# Altium footprint library muhendislik_tasarim.PcbLib: 7 footprints
Each footprint in its own frame and in the unit in brackets; x right, y up, seen from the top. Pads: shape width x height; smd on the part's side, far side on the other; paste and mask are expansions set on the pad; w line width, h text height; cw(c..) or ccw(c..) is an arc to the next point about the centre after c.
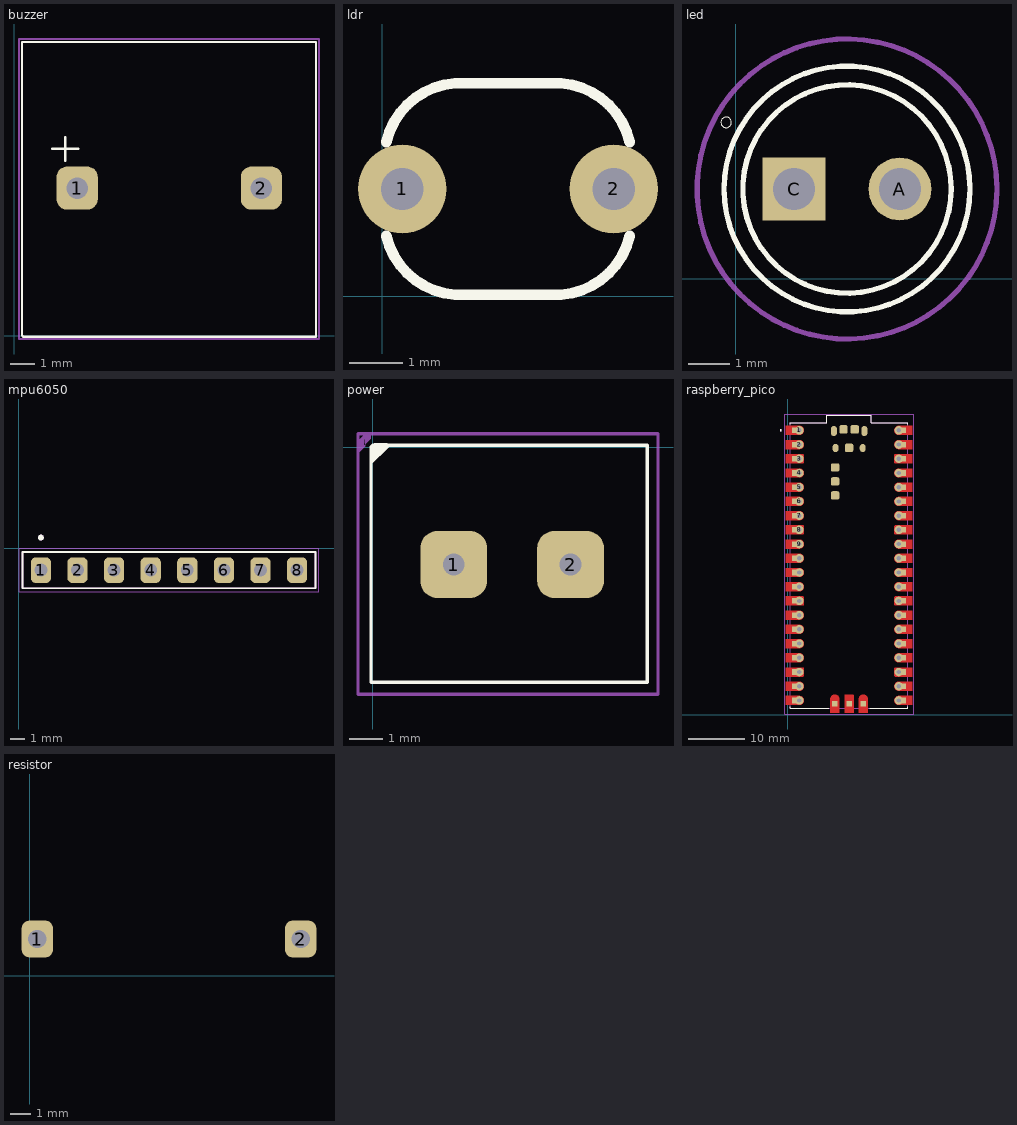
[diagram p0: the footprints below, top view; thin cyan lines are the x and y axes]

## buzzer [mil]
pads (2):
  rrect50% 66.93x70 hole 35 mask+1.97: 1(102.24,239.88) 2(401.46,239.88)
Top Overlay:
  lines w3.94: 61.89,303.85 104.21,303.85 ; 82.56,284.17 82.56,322.56 ; 12.68,0.71 14.65,-1.26 490.04,-1.26 490.04,477.08 12.68,477.08 12.68,0.71
Mechanical 3:
  lines w3.94: 7.76,-5.2 494.96,-5.2 494.96,482 7.76,482 7.76,-5.2
3D body "cem-1205c.stp": height 374.02, standoff -177.17, extent 15.63,1.69 488.07,474.13

## ldr [mil]
pads (2):
  round 66 hole 31.5: 1(15,80) 2(172.48,80)
Top Overlay:
  lines w8: 3.08,45.01 ccw(c58.26,57.75) 54.31,1.26 ; 3.08,114.98 cw(c58.26,102.24) 54.31,158.74 ; 54.37,1.26 133.11,1.26 ; 54.37,158.74 133.11,158.74 ; 133.17,1.26 ccw(c129.22,57.76) 184.4,45.02 ; 133.17,158.74 cw(c129.22,102.25) 184.4,114.99
3D body "light sensor.SLDPRT": height 82.68, standoff -98.43, extent -3.43,-3.74 193.43,153.74

## led [mil]
pads (2):
  round 59.37 hole 39.37: A(155,85)
  rect 59.37x59.37 hole 39.37: C(55,85)
Top Overlay:
  circle w0: c-9.17,147.99 r5
  circle w5: c105,85 r98.43
  circle w5: c105,85 r116.14
Mechanical 15:
  circle w5: c105,85 r141.73
3D body "everlight-5MM-LED-GREEN.STEP": height 316.4, standoff -312.25, extent 2.72,-2.28 217.28,230

## mpu6050 [mil]
pads (8):
  rrect50% 55.43x70 hole 35: 1(60,-60) 2(160,-60) 3(260,-60) 4(360,-60) 5(460,-60) 6(560,-60) 7(660,-60) 8(760,-60)
Top Overlay:
  circle w7.87: c60,28.98 r3.94
  lines w5: 10,-109.61 10,-10.39 810,-10.39 810,-109.61 10,-109.61
Mechanical 13:
  circle w7.87: c60,28.98 r3.94
  lines w5: 10,-109.61 10,-10.39 810,-10.39 810,-109.61 10,-109.61
Mechanical 15:
  lines w1.97: 0.16,-119.45 0.16,-0.55 819.84,-0.55 819.84,-119.45 0.16,-119.45
3D body "ITG-MPU.STEP": height 334.22, standoff -128.38, extent -8.23,-649.61 838.23,0

## power [mm]
pads (2):
  rrect50% 2x2 hole 0.65: 1(2.419,-3.514) 2(5.919,-3.514)
Top Overlay:
  region: 0.486,0.018 -0.087,-0.555 -0.087,-0.02 0.046,0.113 0.426,0.113
  lines w0.1: -0.056,0.011 -0.056,-7.039 8.219,-7.039 8.219,0.061 -0.006,0.061
Mechanical 3:
  region: -0.229,0.396 -0.445,0.18 -0.445,0.397 -0.443,0.396 -0.229,0.396 -0.229,0.032 -0.443,-0.182 -0.443,0.396 -0.229,0.396 -0.222,0.389 -0.063,0.389 -0.063,0.245 -0.266,0.043
  lines w0.1: -0.443,-7.386 -0.443,0.396 -0.229,0.396 8.536,0.396 8.536,-7.395 -0.434,-7.395 -0.443,-7.386
3D body "User Library-JST-XH-2_5mm-2.STEP": height 2.95, standoff -6.35, extent 0.568,-10.922 8.068,-3.282

## raspberry_pico [mil]
pads (93):
  rect 39.37x39.37 smd paste-39.37 mask+0: 1(48.5,2000) 2(48.5,1900) 3(48.5,1800) 4(48.5,1700) 5(48.5,1600) 6(48.5,1500) 7(48.5,1400) 8(48.5,1300) 9(48.5,1200) 10(48.5,1100) 11(48.5,1000) 12(48.5,900) 13(48.5,800) 14(48.5,700) 15(48.5,600) 16(48.5,500) 17(48.5,400) 18(48.5,300) 19(48.5,200) 20(48.5,100) 21(811.5,100) 22(811.5,200) 23(811.5,300) 24(811.5,400) 25(811.5,500) 26(811.5,600) 27(811.5,700) 28(811.5,800) 29(811.5,900) 30(811.5,1000) 31(811.5,1100) 32(811.5,1200) 33(811.5,1300) 34(811.5,1400) 35(811.5,1500) 36(811.5,1600) 37(811.5,1700) 38(811.5,1800) 39(811.5,1900) 40(811.5,2000) D1(330,77.56) D2(430,77.56) D3(530,77.56)
  round 60 hole 30: 1(80,2000) 2(80,1900) 3(80,1800) 4(80,1700) 5(80,1600) 6(80,1500) 7(80,1400) 8(80,1300) 9(80,1200) 10(80,1100) 11(80,1000) 12(80,900) 13(80,800) 14(80,700) 15(80,600) 16(80,500) 17(80,400) 18(80,300) 19(80,200) 20(80,100) 21(780,100) 22(780,200) 23(780,300) 24(780,400) 25(780,500) 26(780,600) 27(780,700) 28(780,800) 29(780,900) 30(780,1000) 31(780,1100) 32(780,1200) 33(780,1300) 34(780,1400) 35(780,1500) 36(780,1600) 37(780,1700) 38(780,1800) 39(780,1900) 40(780,2000)
  oval 43.31x70.87 smd: A(322.72,1994.88) B(537.28,1994.88)
  oval 41.34x57.09 smd: C(334.53,1875.59) D(525.47,1875.59)
  rrect40% 59.06x59.06 smd: TP1(430,1876.77) TP2(469.37,2006.69) TP3(390.63,2006.69) TP4(331.57,1738.98) TP5(331.57,1640.55) TP6(331.57,1542.13)
Top Layer:
  drawing of 43 lines, arcs and shapes, not listed
Top Overlay:
  circle w7.87: c-49.92,2000 r3.94
  lines w5: 16.61,55.91 16.61,46.06 285.91,46.06 ; 16.61,2044.09 16.61,2053.94 272.52,2053.94 272.52,2105.12 587.48,2105.12 587.48,2053.94 843.39,2053.94 843.39,2044.09 ; 574.09,46.06 843.39,46.06 843.39,55.91
Top Paste:
  drawing of 43 lines, arcs and shapes, not listed
Top Solder:
  drawing of 43 lines, arcs and shapes, not listed
Mechanical 13:
  circle w7.87: c-49.92,2000 r3.94
  lines w5: 16.61,46.06 843.39,46.06 843.39,2053.94 587.48,2053.94 587.48,2105.12 272.52,2105.12 272.52,2053.94 16.61,2053.94 16.61,46.06
Mechanical 15:
  lines w1.97: -24.33,4.72 884.33,4.72 884.33,2114.96 -24.33,2114.96 -24.33,4.72
3D body "step_temp.STEP": height 146.85, standoff 0, extent 16.61,46.06 843.39,2105.12

## resistor [mil]
pads (2):
  rrect50% 60x70 hole 35: 1(15,70) 2(515,70)
3D body "User Library-Res50-Axial 0_5W-330R.STEP": height 369.09, standoff 0, extent 0.24,-3.81 529.77,143.82